# EAGLE library part MMBD3004BRM (library diodes)
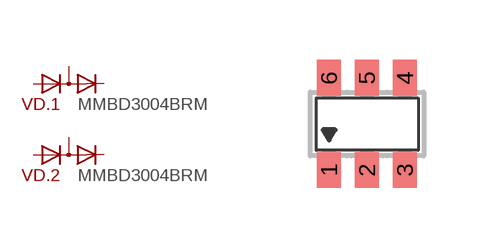
[diagram p0: symbol with the pads of SOT23-6; footprint SOT23-6]

Designator prefix VD; gates .1=DIODE-X2-AC-AC .2=DIODE-X2-AC-AC

## MMBD3004BRM  [SOT23-6]
1  .1:A  pas
2  .2:A  pas
3  .2:CMN  pas
4  .2:C  pas
5  .1:C  pas
6  .1:CMN  pas

## Footprint SOT23-6 (pad centres in mm)
Small Outline Transistor 6 lead
smd 0.6 x 0.9: 1 -0.95,-1.15; 2 0,-1.15; 3 0.95,-1.15; 4 0.95,1.15; 5 0,1.15; 6 -0.95,1.15